# Altium footprint library alexsb.PCBLIB: 444 footprints (part 21 of 28)
Each footprint in its own frame and in the unit in brackets; x right, y up, seen from the top. Pads: shape width x height; smd on the part's side, far side on the other; paste and mask are expansions set on the pad; w line width, h text height; cw(c..) or ccw(c..) is an arc to the next point about the centre after c.
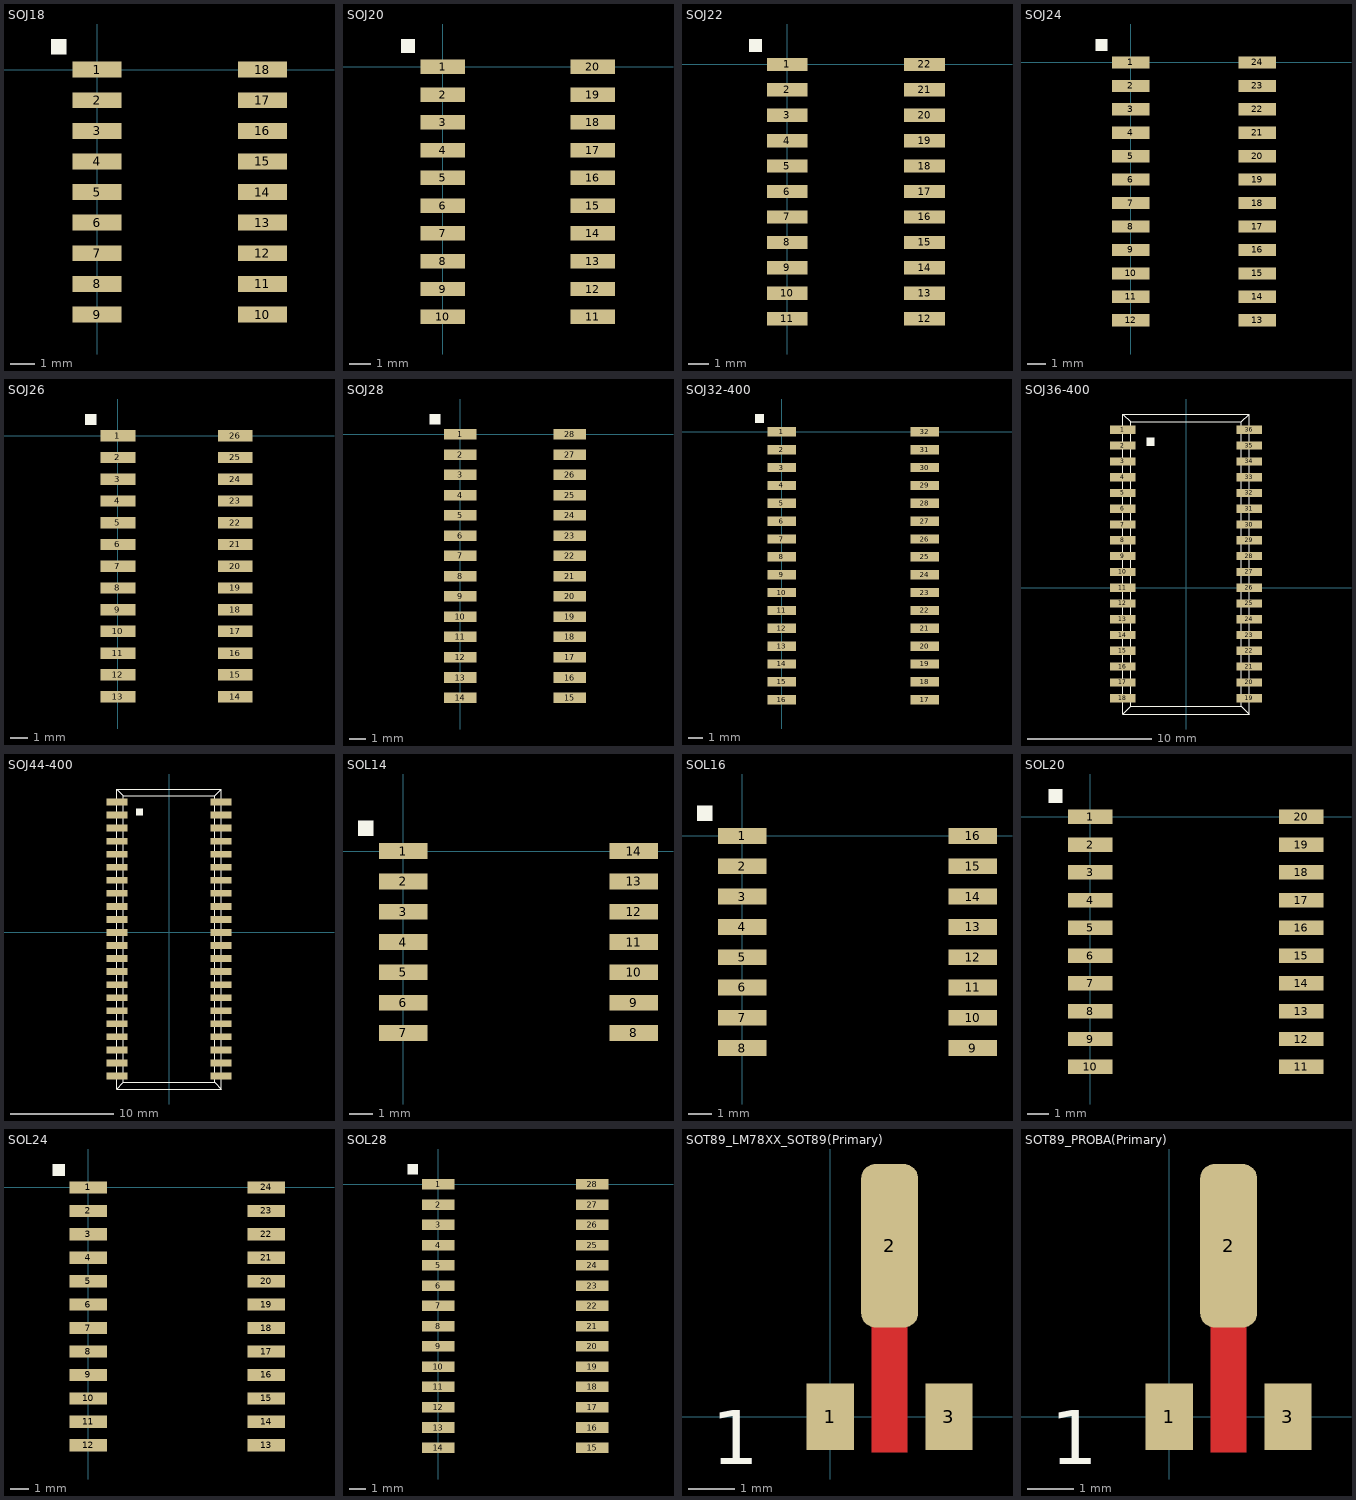
[diagram p20: the footprints below, top view; thin cyan lines are the x and y axes]

## SOJ18 [mil]
pads (18):
  rect 80x26 smd: 1(0,0) 2(0,-50) 3(0,-100) 4(0,-150) 5(0,-200) 6(0,-250) 7(0,-300) 8(0,-350) 9(0,-400) 10(270,-400) 11(270,-350) 12(270,-300) 13(270,-250) 14(270,-200) 15(270,-150) 16(270,-100) 17(270,-50) 18(270,0)
Top Overlay:
  region: -75,25 -50,25 -50,50 -75,50

## SOJ20 [mil]
pads (20):
  rect 80x26 smd: 1(0,0) 2(0,-50) 3(0,-100) 4(0,-150) 5(0,-200) 6(0,-250) 7(0,-300) 8(0,-350) 9(0,-400) 10(0,-450) 11(270,-450) 12(270,-400) 13(270,-350) 14(270,-300) 15(270,-250) 16(270,-200) 17(270,-150) 18(270,-100) 19(270,-50) 20(270,0)
Top Overlay:
  region: -75,25 -50,25 -50,50 -75,50

## SOJ22 [mil]
pads (22):
  rect 80x26 smd: 1(0,0) 2(0,-50) 3(0,-100) 4(0,-150) 5(0,-200) 6(0,-250) 7(0,-300) 8(0,-350) 9(0,-400) 10(0,-450) 11(0,-500) 12(270,-500) 13(270,-450) 14(270,-400) 15(270,-350) 16(270,-300) 17(270,-250) 18(270,-200) 19(270,-150) 20(270,-100) 21(270,-50) 22(270,0)
Top Overlay:
  region: -75,25 -50,25 -50,50 -75,50

## SOJ24 [mil]
pads (24):
  rect 80x26 smd: 1(0,0) 2(0,-50) 3(0,-100) 4(0,-150) 5(0,-200) 6(0,-250) 7(0,-300) 8(0,-350) 9(0,-400) 10(0,-450) 11(0,-500) 12(0,-550) 13(270,-550) 14(270,-500) 15(270,-450) 16(270,-400) 17(270,-350) 18(270,-300) 19(270,-250) 20(270,-200) 21(270,-150) 22(270,-100) 23(270,-50) 24(270,0)
Top Overlay:
  region: -75,25 -50,25 -50,50 -75,50

## SOJ26 [mil]
pads (26):
  rect 80x26 smd: 1(0,0) 2(0,-50) 3(0,-100) 4(0,-150) 5(0,-200) 6(0,-250) 7(0,-300) 8(0,-350) 9(0,-400) 10(0,-450) 11(0,-500) 12(0,-550) 13(0,-600) 14(270,-600) 15(270,-550) 16(270,-500) 17(270,-450) 18(270,-400) 19(270,-350) 20(270,-300) 21(270,-250) 22(270,-200) 23(270,-150) 24(270,-100) 25(270,-50) 26(270,0)
Top Overlay:
  region: -75,25 -50,25 -50,50 -75,50

## SOJ28 [mil]
pads (28):
  rect 80x26 smd: 1(0,0) 2(0,-50) 3(0,-100) 4(0,-150) 5(0,-200) 6(0,-250) 7(0,-300) 8(0,-350) 9(0,-400) 10(0,-450) 11(0,-500) 12(0,-550) 13(0,-600) 14(0,-650) 15(270,-650) 16(270,-600) 17(270,-550) 18(270,-500) 19(270,-450) 20(270,-400) 21(270,-350) 22(270,-300) 23(270,-250) 24(270,-200) 25(270,-150) 26(270,-100) 27(270,-50) 28(270,0)
Top Overlay:
  region: -75,25 -50,25 -50,50 -75,50

## SOJ32-400 [mil]
pads (32):
  rect 80x26 smd: 1(0,0) 2(0,-50) 3(0,-100) 4(0,-150) 5(0,-200) 6(0,-250) 7(0,-300) 8(0,-350) 9(0,-400) 10(0,-450) 11(0,-500) 12(0,-550) 13(0,-600) 14(0,-650) 15(0,-700) 16(0,-750) 17(400,-750) 18(400,-700) 19(400,-650) 20(400,-600) 21(400,-550) 22(400,-500) 23(400,-450) 24(400,-400) 25(400,-350) 26(400,-300) 27(400,-250) 28(400,-200) 29(400,-150) 30(400,-100) 31(400,-50) 32(400,0)
Top Overlay:
  region: -75,25 -50,25 -50,50 -75,50

## SOJ36-400 [mil]
pads (36):
  rect 80x26 smd: 1(-200,500) 2(-200,450) 3(-200,400) 4(-200,350) 5(-200,300) 6(-200,250) 7(-200,200) 8(-200,150) 9(-200,100) 10(-200,50) 11(-200,0) 12(-200,-50) 13(-200,-100) 14(-200,-150) 15(-200,-200) 16(-200,-250) 17(-200,-300) 18(-200,-350) 19(200,-350) 20(200,-300) 21(200,-250) 22(200,-200) 23(200,-150) 24(200,-100) 25(200,-50) 26(200,0) 27(200,50) 28(200,100) 29(200,150) 30(200,200) 31(200,250) 32(200,300) 33(200,350) 34(200,400) 35(200,450) 36(200,500)
Top Overlay:
  region: -125,450 -100,450 -100,475 -125,475
  lines w3.94: -200,-400 200,-400 ; -200,-400 -200,550 ; -200,-400 -175,-375 ; -200,550 200,550 ; -200,550 -175,525 ; -175,-375 175,-375 ; -175,-375 -175,525 ; -175,525 175,525 ; 175,-375 175,525 ; 175,-375 200,-400 ; 175,525 200,550 ; 200,-400 200,550

## SOJ44-400 [mil]
pads (44):
  rect 80x26 smd: 1(-200,500) 2(-200,450) 3(-200,400) 4(-200,350) 5(-200,300) 6(-200,250) 7(-200,200) 8(-200,150) 9(-200,100) 10(-200,50) 11(-200,0) 12(-200,-50) 13(-200,-100) 14(-200,-150) 15(-200,-200) 16(-200,-250) 17(-200,-300) 18(-200,-350) 19(-200,-400) 20(-200,-450) 21(-200,-500) 22(-200,-550) 23(200,-550) 24(200,-500) 25(200,-450) 26(200,-400) 27(200,-350) 28(200,-300) 29(200,-250) 30(200,-200) 31(200,-150) 32(200,-100) 33(200,-50) 34(200,0) 35(200,50) 36(200,100) 37(200,150) 38(200,200) 39(200,250) 40(200,300) 41(200,350) 42(200,400) 43(200,450) 44(200,500)
Top Overlay:
  region: -125,450 -100,450 -100,475 -125,475
  lines w3.94: -200,-600 -175,-575 ; -200,-600 -200,550 ; -200,-600 200,-600 ; -200,550 -175,525 ; -200,550 200,550 ; -175,-575 175,-575 ; -175,-575 -175,525 ; -175,525 175,525 ; 175,-575 200,-600 ; 175,-575 175,525 ; 175,525 200,550 ; 200,-600 200,550

## SOL14 [mil]
pads (14):
  rect 80x26 smd: 1(0,0) 2(0,-50) 3(0,-100) 4(0,-150) 5(0,-200) 6(0,-250) 7(0,-300) 8(380,-300) 9(380,-250) 10(380,-200) 11(380,-150) 12(380,-100) 13(380,-50) 14(380,0)
Top Overlay:
  region: -75,25 -50,25 -50,50 -75,50

## SOL16 [mil]
pads (16):
  rect 80x26 smd: 1(0,0) 2(0,-50) 3(0,-100) 4(0,-150) 5(0,-200) 6(0,-250) 7(0,-300) 8(0,-350) 9(380,-350) 10(380,-300) 11(380,-250) 12(380,-200) 13(380,-150) 14(380,-100) 15(380,-50) 16(380,0)
Top Overlay:
  region: -75,25 -50,25 -50,50 -75,50

## SOL20 [mil]
pads (20):
  rect 80x26 smd: 1(0,0) 2(0,-50) 3(0,-100) 4(0,-150) 5(0,-200) 6(0,-250) 7(0,-300) 8(0,-350) 9(0,-400) 10(0,-450) 11(380,-450) 12(380,-400) 13(380,-350) 14(380,-300) 15(380,-250) 16(380,-200) 17(380,-150) 18(380,-100) 19(380,-50) 20(380,0)
Top Overlay:
  region: -75,25 -50,25 -50,50 -75,50

## SOL24 [mil]
pads (24):
  rect 80x26 smd: 1(0,0) 2(0,-50) 3(0,-100) 4(0,-150) 5(0,-200) 6(0,-250) 7(0,-300) 8(0,-350) 9(0,-400) 10(0,-450) 11(0,-500) 12(0,-550) 13(380,-550) 14(380,-500) 15(380,-450) 16(380,-400) 17(380,-350) 18(380,-300) 19(380,-250) 20(380,-200) 21(380,-150) 22(380,-100) 23(380,-50) 24(380,0)
Top Overlay:
  region: -75,25 -50,25 -50,50 -75,50

## SOL28 [mil]
pads (28):
  rect 80x26 smd: 1(0,0) 2(0,-50) 3(0,-100) 4(0,-150) 5(0,-200) 6(0,-250) 7(0,-300) 8(0,-350) 9(0,-400) 10(0,-450) 11(0,-500) 12(0,-550) 13(0,-600) 14(0,-650) 15(380,-650) 16(380,-600) 17(380,-550) 18(380,-500) 19(380,-450) 20(380,-400) 21(380,-350) 22(380,-300) 23(380,-250) 24(380,-200) 25(380,-150) 26(380,-100) 27(380,-50) 28(380,0)
Top Overlay:
  region: -75,25 -50,25 -50,50 -75,50

## SOT89_LM78XX_SOT89(Primary) [mil]
pads (3):
  rect 40x56 smd: 1(0,0) 3(100,0)
  rrect50% 48x138 smd: 2(50,144)
Top Layer:
  region: 35,-30 65,-30 65,30 65,80 35,80 35,20
Top Overlay:
  text "1" at -100,-40 h45.62

## SOT89_PROBA(Primary) [mil]
pads (3):
  rect 40x56 smd: 1(0,0) 3(100,0)
  rrect50% 48x138 smd: 2(50,144)
Top Layer:
  region: 35,-30 65,-30 65,30 65,80 35,80 35,20
Top Overlay:
  text "1" at -100,-40 h45.62